# EAGLE library part ADS1015IDGSR (library ADS1015IDGSR)
Check prices <https://pricing.snapeda.com/parts/ADS1015IDGSR/Texas%20Instruments/view-part?ref=eda>
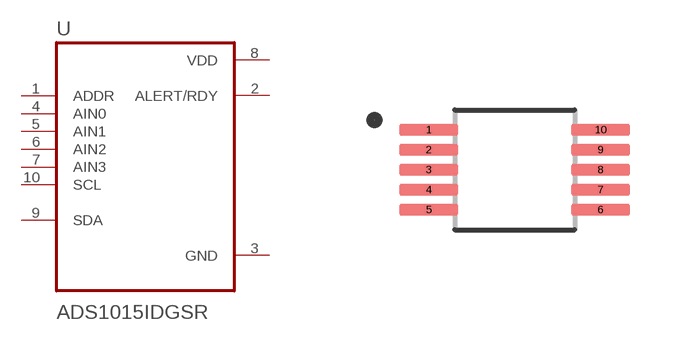
[diagram p0: symbol with the pads of SOP50P490X110-10N; footprint SOP50P490X110-10N]

Designator prefix U

## ADS1015IDGSR (Availability: Good; Description: 12-Bit, 3.3kSPS, 4-Ch Delta-Sigma ADC With PGA, Oscillator, VREF, Comparator and I2C Interface 10-VSSOP -40 to 125; MF: Texas Instruments; MP: ADS1015IDGSR; Package: VSSOP-10 Texas Instruments; Price: None; Purchase-URL: https://pricing.snapeda.com/search/part/ADS1015IDGSR/?ref=eda)  [SOP50P490X110-10N]
1  ADDR  in
2  ALERT/RDY  out
3  GND  pwr
4  AIN0  in
5  AIN1  in
6  AIN2  in
7  AIN3  in
8  VDD  pwr
9  SDA
10  SCL  in

## Footprint SOP50P490X110-10N (pad centres in mm)
smd 1.47 x 0.28: 1 -2.15,1; 2 -2.15,0.5; 3 -2.15,0; 4 -2.15,-0.5; 5 -2.15,-1; 6 2.15,-1; 7 2.15,-0.5; 8 2.15,0; 9 2.15,0.5; 10 2.15,1